# EAGLE library part M906 (library dec-m)
Cable Terminator
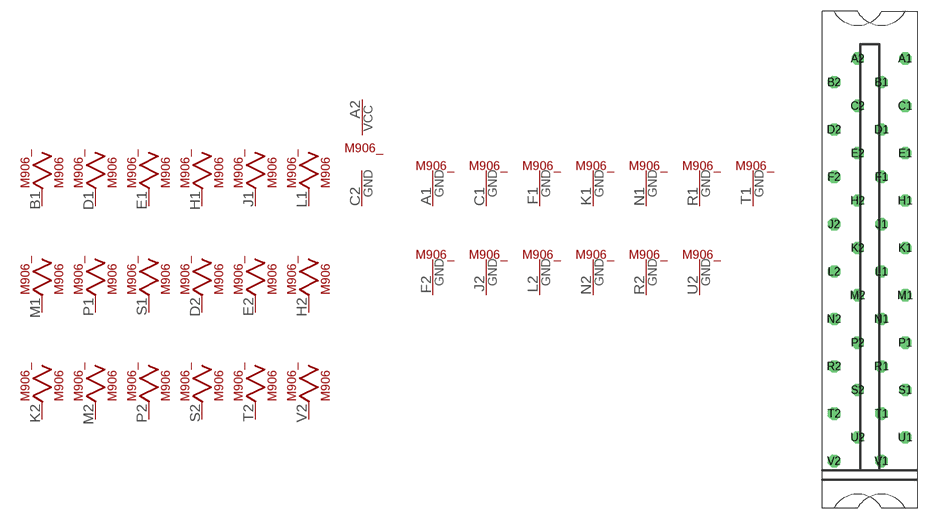
[diagram p75: symbol with the pads of H807; footprint H807]

Designator prefix M906_; gates G$1=POWER A1=T1GND B1=W005A D1=W005A E1=W005A H1=W005A J1=W005A L1=W005A M1=W005A P1=W005A C1=T1GND F1=T1GND K1=T1GND R1=T1GND T1=T1GND F2=T1GND J2=T1GND L2=T1GND N2=T1GND R2=T1GND U2=T1GND S1=W005A D2=W005A E2=W005A H2=W005A K2=W005A M2=W005A P2=W005A S2=W005A T2=W005A V2=W005A N1=T1GND

## M906  [H807]
A1  A1:GND  pwr
A2  G$1:VCC  pwr
B1  B1:P$1  pas
C1  C1:GND  pwr
C2  G$1:GND  pwr
D1  D1:P$1  pas
D2  D2:P$1  pas
E1  E1:P$1  pas
E2  E2:P$1  pas
F1  F1:GND  pwr
F2  F2:GND  pwr
H1  H1:P$1  pas
H2  H2:P$1  pas
J1  J1:P$1  pas
J2  J2:GND  pwr
K1  K1:GND  pwr
K2  K2:P$1  pas
L1  L1:P$1  pas
L2  L2:GND  pwr
M1  M1:P$1  pas
M2  M2:P$1  pas
N1  N1:GND  pwr
N2  N2:GND  pwr
P1  P1:P$1  pas
P2  P2:P$1  pas
R1  R1:GND  pwr
R2  R2:GND  pwr
S1  S1:P$1  pas
S2  S2:P$1  pas
T1  T1:GND  pwr
T2  T2:P$1  pas
U2  U2:GND  pwr
V2  V2:P$1  pas

## Footprint H807 (pad centres in mm)
One-wide female edge connector
drill 1.092 octagon: A1 4.763,28.575; A2 -1.587,28.575; B1 1.587,25.4; B2 -4.763,25.4; C1 4.763,22.225; C2 -1.587,22.225; D1 1.587,19.05; D2 -4.763,19.05; E1 4.763,15.875; E2 -1.587,15.875; F1 1.587,12.7; F2 -4.763,12.7; H1 4.763,9.525; H2 -1.587,9.525; J1 1.587,6.35; J2 -4.763,6.35; K1 4.763,3.175; K2 -1.587,3.175; L1 1.587,0; L2 -4.763,0; M1 4.763,-3.175; M2 -1.587,-3.175; N1 1.587,-6.35; N2 -4.763,-6.35; P1 4.763,-9.525; P2 -1.587,-9.525; R1 1.587,-12.7; R2 -4.763,-12.7; S1 4.763,-15.875; S2 -1.587,-15.875; T1 1.587,-19.05; T2 -4.763,-19.05; U1 4.763,-22.225; U2 -1.587,-22.225; V1 1.587,-25.4; V2 -4.763,-25.4